# Altium schematic symbol library TMC2130-LA.SchLib: 1 symbol
Pins are listed as number, name and electrical type; pins without a type are passive.

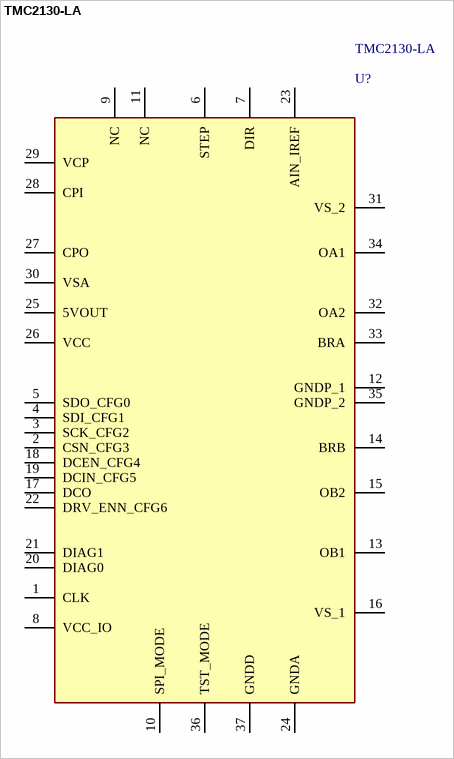
[diagram p0: symbol TMC2130-LA]

## TMC2130-LA
designator U?
Silent stepper motor driver 5 to 46V, up to 1.2A with S/D and SPI Interface, 256 Steps, CoolStep, StallGuard and StealthChop; Manufacturer_Name: Analog Devices; Geometry.Height: 0.9mm; Manufacturer_Part_Number: TMC2130-LA; Mouser Part Number: 700-TMC2130LA; Mouser Price/Stock: https://www.mouser.co.uk/ProductDetail/ADI-Trinamic/TMC2130-LA?qs=TiOZkKH1s2ScTTewbXPgVg%3D%3D; Arrow Part Number: TMC2130-LA; Arrow Price/Stock: https://www.arrow.com/en/products/tmc2130-la/analog-devices?utm_currency=USD&region=nac; Datasheet Link: https://www.analog.com/TMC2130/datasheet
footprint QFN50P500X600X90-37N
pins: 1 CLK, 2 CSN_CFG3, 3 SCK_CFG2, 4 SDI_CFG1, 5 SDO_CFG0, 6 STEP, 7 DIR, 8 VCC_IO, 9 NC, 10 SPI_MODE, 11 NC, 12 GNDP_1, 13 OB1, 14 BRB, 15 OB2, 16 VS_1, 17 DCO, 18 DCEN_CFG4, 19 DCIN_CFG5, 20 DIAG0, 21 DIAG1, 22 DRV_ENN_CFG6, 23 AIN_IREF, 24 GNDA, 25 5VOUT, 26 VCC, 27 CPO, 28 CPI, 29 VCP, 30 VSA, 31 VS_2, 32 OA2, 33 BRA, 34 OA1, 35 GNDP_2, 36 TST_MODE, 37 GNDD